# Altium schematic symbol library PowerICs.SchLib: 5 symbols
Pins are listed as number, name and electrical type; pins without a type are passive.

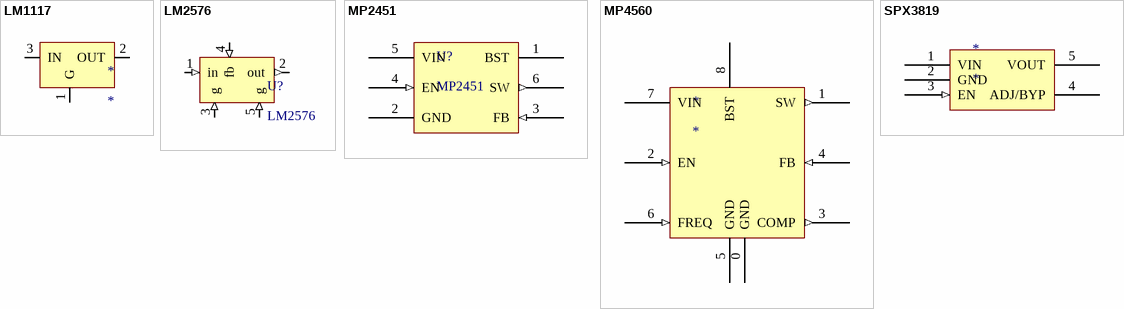
[diagram p0: symbols LM1117 to SPX3819]

## LM1117
designator *
footprint LC-SOT-223
pins: 1 G, 2 OUT, 3 IN

## LM2576
designator U?
footprint LM2576
pins: 1 in (in), 2 out (out), 3 g (in), 4 fb (in), 5 g (in)

## MP2451
designator U?
footprint LC-SOT-23-6
pins: 1 BST (power), 2 GND (power), 3 FB (in), 4 EN (in), 5 VIN (power), 6 SW (out)

## MP4560
designator *
footprint LC-SOIC-8_EP_150mil
pins: 0 GND (power), 1 SW (out), 2 EN (in), 3 COMP (out), 4 FB (in), 5 GND (power), 6 FREQ (in), 7 VIN (power), 8 BST (power)

## SPX3819
designator *
footprint LC-SOT-23-5
pins: 1 VIN (power), 2 GND (power), 3 EN (in), 4 ADJ/BYP (power), 5 VOUT (power)